# Altium schematic symbol library CPU_STM_080816.SchLib: 227 symbols (part 4 of 5)
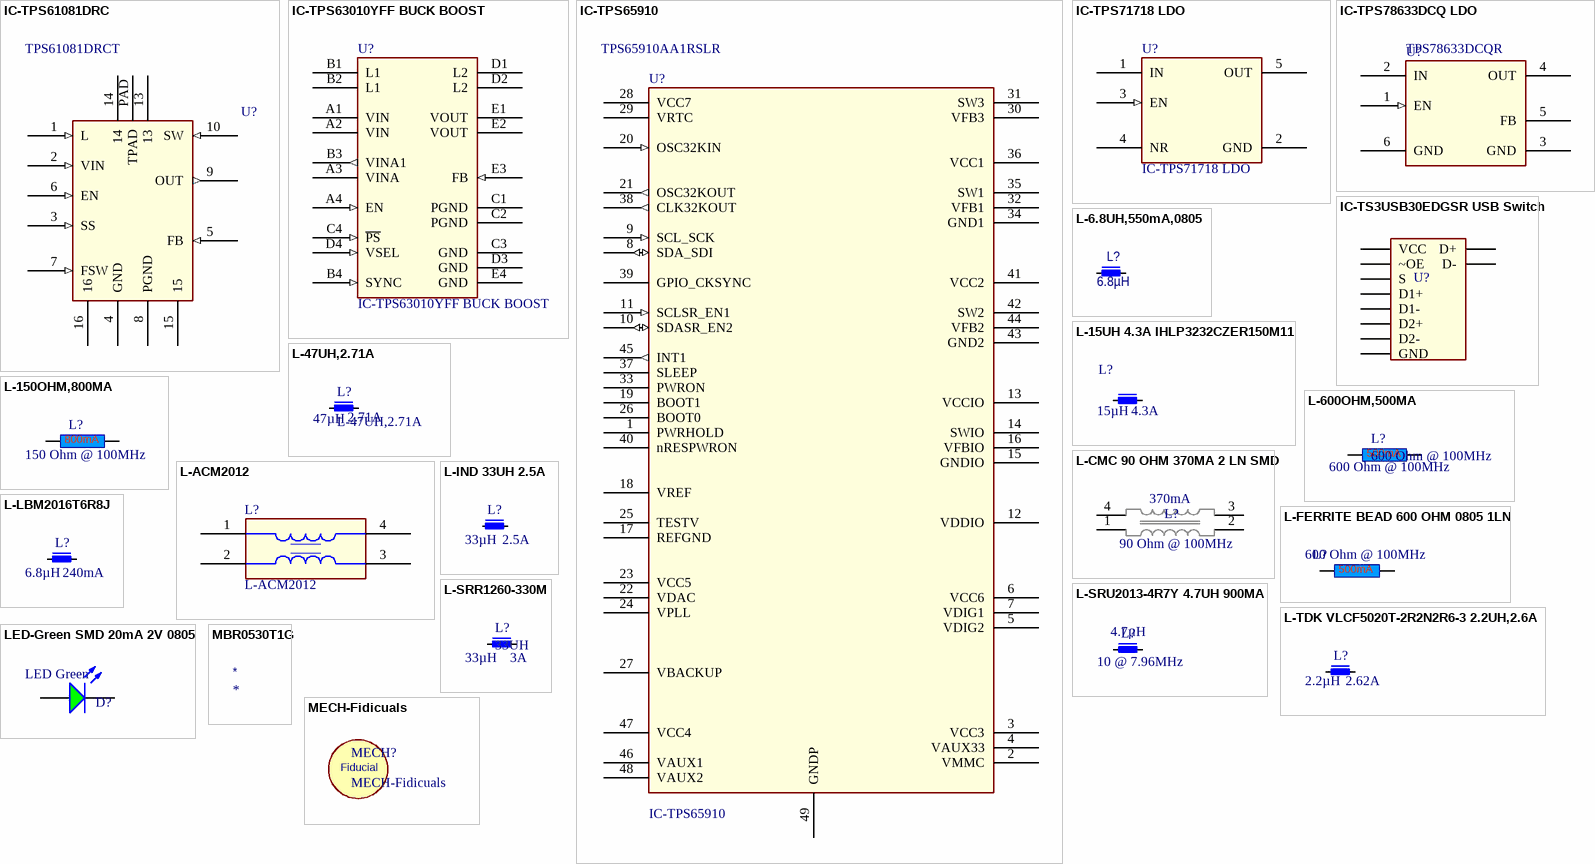
[diagram p14: symbols IC-TPS61081DRC to MECH-Fidicuals]

## IC-TPS63010YFF BUCK BOOST
designator U?
IC REG BUCK BOOST ADJ 2A 20DSBGA; Manufacturer: Texas Instruments; Manufacturer Part Number: TPS63010YFFT; Function: Step-Up/Step-Down; Output Configuration: Positive; Topology: Buck-Boost; Output Type: Adjustable; Number of Outputs: 1; Voltage - Input (Min): 2V; Voltage - Input (Max): 5.5V; Voltage - Output (Min/Fixed): 1.2V; Current - Output: 2A (Switch); Frequency - Switching: 2.4MHz; Synchronous Rectifier: Yes; Supplier 1: Digi-Key; RoHS: RoHS Compliant; Category: Integrated Circuits (ICs); Stock 1: 485; Pricing 1: 1=2.71, 10=2.43, 100=1.9491 (USD); Packaging: Cut Tape (CT); Voltage - Output (Max): 5.5V; Operating Temperature: -40°C ~ 85°C (TA); Mounting Type: Surface Mount; Package / Case: 20-UFBGA, DSBGA; Supplier Device Package: 20-DSBGA; ComponentLink1URL: http://www.ti.com/lit/ds/symlink/tps63010.pdf; ComponentLink1Description: http://www.ti.com/lit/ds/symlink/tps63010.pdf; Supplier Part Number 1: 296-27033-1-ND
footprint u_20_dsbga
pins: A1 VIN (power), A2 VIN (power), A3 VINA (power), A4 EN (in), B1 L1 (power), B2 L1 (power), B3 VINA1 (out), B4 SYNC (in), C1 PGND (power), C2 PGND (power), C3 GND (power), C4 ~{PS} (in), D1 L2 (power), D2 L2 (power), D3 GND (power), D4 VSEL (in), E1 VOUT (power), E2 VOUT (power), E3 FB (in), E4 GND (power)

## IC-TPS65910
designator U?  Manufacturer Part Number: TPS65910AA1RSLR
IC PWR MGMT 4DCDC/8 LDO 48VQFN; Manufacturer: Texas Instruments; Voltage - Supply: 1.7 V ~ 5.5 V; Supplier 1: Digi-Key; RoHS: RoHS Compliant; Category: Integrated Circuits (ICs); Stock 1: 1906; Pricing 1: 1=4.55, 10=4.079, 100=3.3467, 500=2.84716, 1000=2.08125 (USD); Packaging: Digi-Reel®; Applications: Handheld/Mobile Devices, OMAP™; Current - Supply: -; Operating Temperature: -40°C ~ 85°C; Mounting Type: Surface Mount; Package / Case: 48-VFQFN Exposed Pad; Supplier Device Package: 48-VQFN (6x6); ComponentLink1URL: http://www.ti.com/lit/ds/symlink/tps65910.pdf; ComponentLink1Description: http://www.ti.com/lit/ds/symlink/tps65910.pdf; Supplier Part Number 1: 296-39469-6-ND
footprint VQFN-48 (U_48_RSL)
pins: 1 PWRHOLD, 2 VMMC (power), 3 VCC3 (power), 4 VAUX33 (power), 5 VDIG2, 6 VCC6, 7 VDIG1, 8 SDA_SDI (io), 9 SCL_SCK (in), 10 SDASR_EN2 (io), 11 SCLSR_EN1 (in), 12 VDDIO, 13 VCCIO (power), 14 SWIO (power), 15 GNDIO (power), 16 VFBIO, 17 REFGND (power), 18 VREF, 19 BOOT1, 20 OSC32KIN (in), 21 OSC32KOUT (out), 22 VDAC (power), 23 VCC5 (power), 24 VPLL (power), 25 TESTV, 26 BOOT0, 27 VBACKUP (power), 28 VCC7, 29 VRTC, 30 VFB3, 31 SW3 (power), 32 VFB1, 33 PWRON, 34 GND1 (power), 35 SW1 (power), 36 VCC1, 37 SLEEP, 38 CLK32KOUT (out), 39 GPIO_CKSYNC, 40 nRESPWRON, 41 VCC2, 42 SW2 (power), 43 GND2 (power), 44 VFB2, 45 INT1 (out), 46 VAUX1 (power), 47 VCC4 (power), 48 VAUX2 (power), 49 GNDP (power)

## IC-TPS71718 LDO
designator U?
IC REG LDO 1.8V 0.15A SC70-5; Manufacturer: Texas Instruments; Manufacturer Part Number: TPS71718DCKR; Regulator Topology: Positive Fixed; Current - Output: 150mA; Number of Regulators: 1; Voltage - Input: 2.5 V ~ 6.5 V; Current - Limit (Min): 200mA; Supplier 1: Digi-Key; RoHS: RoHS Compliant; Category: Integrated Circuits (ICs); Stock 1: 8074; Pricing 1: 1=1.1, 10=0.985, 100=0.7679, 500=0.63504, 1000=0.405 (USD); Packaging: Digi-Reel®; Voltage - Output: 1.8V; Voltage - Dropout (Typical): -; Operating Temperature: -40°C ~ 125°C; Mounting Type: Surface Mount; Package / Case: 5-TSSOP, SC-70-5, SOT-353; Supplier Device Package: SC-70-5; ComponentLink1URL: http://www.ti.com/lit/ds/symlink/tps717.pdf; ComponentLink1Description: http://www.ti.com/lit/ds/symlink/tps717.pdf; Supplier Part Number 1: 296-19646-6-ND
footprint smdsc70-5 (SMDSC70-5)
pins: 1 IN, 2 GND (power), 3 EN (in), 4 NR, 5 OUT

## IC-TPS78633DCQ LDO
designator U?  Manufacturer Part Number: TPS78633DCQR  (hidden comment: *)
IC REG LDO 3.3V 1.5A SOT223-6; Manufacturer: Texas Instruments; Regulator Topology: Positive Fixed; Voltage - Dropout (Typical): 0.34V @ 1.5A; Number of Regulators: 1; Voltage - Input: Up to 5.5V; Current - Limit (Min): 2.4A; Supplier 1: Digi-Key; RoHS: RoHS Compliant; Category: Integrated Circuits (ICs); Stock 1: 4748; Pricing 1: 1=3.56, 10=3.197, 100=2.6231, 500=2.23156, 1000=1.63125 (USD); Packaging: Digi-Reel®; Voltage - Output: 3.3V; Current - Output: 1.5A; Operating Temperature: -40°C ~ 125°C; Mounting Type: Surface Mount; Package / Case: SOT-223-6; Supplier Device Package: SOT-223-6; ComponentLink1URL: http://www.ti.com/lit/ds/symlink/tps786.pdf; ComponentLink1Description: http://www.ti.com/lit/ds/symlink/tps786.pdf; Supplier Part Number 1: 296-13760-6-ND
footprint SOT223_6PIN
pins: 1 EN (in), 2 IN, 3 GND (power), 4 OUT (power), 5 FB, 6 GND (power)

## IC-TS3USB30EDGSR USB Switch
designator U?, comment TS3USB30EDGSR  (value not drawn)
IC USB SWITCH SGL 1X2 10MSOP; Manufacturer: Texas Instruments; Circuit: 2 x 2:1; On-State Resistance (Max): 10 Ohm; Voltage Supply Source: Single Supply; Voltage - Supply, Single/Dual (±): 3 V ~ 4.3 V; Current - Supply: 1µA; Supplier 1: Digi-Key; Manufacturer Part Number: TS3USB30EDGSR; RoHS: RoHS Compliant; Category: Integrated Circuits (ICs); Stock 1: 7500; Pricing 1: 2500=0.55125 (USD); Packaging: Tape & Reel (TR); Function: USB Switch; Operating Temperature: -40°C ~ 85°C; Mounting Type: Surface Mount; Package / Case: 10-TFSOP, 10-MSOP (0.118", 3.00mm Width); Supplier Device Package: 10-VSSOP; ComponentLink1URL: http://www.ti.com/lit/ds/symlink/ts3usb30e.pdf; ComponentLink1Description: http://www.ti.com/lit/ds/symlink/ts3usb30e.pdf; Supplier Part Number 1: 296-25495-2-ND
footprint S-PDSO-G 10
pins: 1 S, 2 D1+, 3 D2+, 4 D+, 5 GND, 6 D-, 7 D2-, 8 D1-, 9 ~OE, 10 VCC

## L-6.8UH,550mA,0805
designator L?, comment Inductance: 6.8µH  (hidden comment: 6.8UH 550MA)
FIXED IND 6.8UH 550MA 250 MOHM; Manufacturer: TDK Corporation; Manufacturer Part Number: MLZ2012N6R8LT000; Type: Multilayer; Material - Core: Ferrite; Tolerance: ±20%; Current - Saturation: 110mA; Shielding: Shielded; Frequency - Self Resonant: 60MHz; Frequency - Test: 2MHz; Supplier 1: Digi-Key; RoHS: RoHS Compliant; Category: Inductors, Coils, Chokes; Stock 1: 11951; Pricing 1: 1=0.14, 10=0.125, 50=0.0976, 100=0.0875, 500=0.075, 1000=0.065 (USD); Packaging: Digi-Reel®; Part Status: Active; Current Rating: 550mA; DC Resistance (DCR): 250 mOhm; Q @ Freq: -; Ratings: -; Operating Temperature: -55°C ~ 125°C; Mounting Type: Surface Mount; Package / Case: 0805 (2012 Metric); Size / Dimension: 0.079" L x 0.049" W (2.00mm x 1.25mm); Height - Seated (Max): 0.057" (1.45mm); ComponentLink1URL: https://product.tdk.com/info/en/catalog/datasheets/inductor_commercial_decoupling_mlz2012_en.pdf; ComponentLink1Description: https://product.tdk.com/info/en/catalog/datasheets/inductor_commercial_decoupling_mlz2012_en.pdf; Supplier Part Number 1: 445-6761-6-ND
footprint 0805
pins: 1, 2

## L-15UH 4.3A IHLP3232CZER150M11
designator L?, comment Current Rating: 4.3A  Inductance: 15µH  (hidden comment: 15UH 3.8A)
FIXED IND 15UH 4.3A 85.3 MOHM; Manufacturer: Vishay Dale; Manufacturer Part Number: IHLP3232CZER150M11; Type: Molded; Tolerance: ±20%; Shielding: Shielded; DC Resistance (DCR): 85.3 mOhm Max; Frequency - Self Resonant: 11MHz; Frequency - Test: 100kHz; Supplier 1: Digi-Key; RoHS: RoHS Compliant; Category: Inductors, Coils, Chokes; Stock 1: 4866; Pricing 1: 1=1.8, 10=1.688, 25=1.5752, 50=1.35, 100=1.2825, 250=1.17, 500=1.035 (USD); Packaging: Digi-Reel®; Material - Core: -; Current - Saturation: 3.8A; Q @ Freq: -; Ratings: -; Operating Temperature: -55°C ~ 125°C; Mounting Type: Surface Mount; Package / Case: Nonstandard; Size / Dimension: 0.340" L x 0.322" W (8.64mm x 8.18mm); Height - Seated (Max): 0.118" (3.00mm); ComponentLink1URL: http://www.vishay.com/docs/34321/ihlp3232cz11.pdf; ComponentLink1Description: http://www.vishay.com/docs/34321/ihlp3232cz11.pdf; Supplier Part Number 1: 541-1623-6-ND
footprint indkrt_2
pins: 1, 2

## L-47UH,2.71A
designator L?  Inductance - Connected In Parallel: 47µH  Current Rating - Parallel: 2.71A
Fixed Inductors 47uH 2.71A 0.074ohms; Manufacturer: Bourns Inc.; Manufacturer Part Number: SRF1260-470M; Number of Coils: 2; Inductance - Connected In Series: 188µH; Tolerance: ±20%; Current Rating - Series: 1.35A; Current Saturation - Parallel: 3.24A; Current Saturation - Series: 1.62A; DC Resistance (DCR) - Parallel: 86 mOhm Max; DC Resistance (DCR) - Series: 340 mOhm Max; Shielding: Shielded; Supplier 1: Digi-Key; RoHS: RoHS Compliant; Category: Inductors, Coils, Chokes; Stock 1: 378; Pricing 1: 1=1.15, 10=1.08, 25=1.008, 50=0.864, 100=0.8208 (USD); Packaging: Cut Tape (CT); Operating Temperature: -40°C ~ 125°C; Mounting Type: Surface Mount; Package / Case: Nonstandard; Size / Dimension: 0.492" L x 0.492" W (12.50mm x 12.50mm); Height: 0.244" (6.20mm); ComponentLink1URL: http://www.bourns.com/docs/Product-Datasheets/SRF1260.pdf; ComponentLink1Description: http://www.bourns.com/docs/Product-Datasheets/SRF1260.pdf; Supplier Part Number 1: SRF1260-470MCT-ND
footprint indkrt_2
pins: 1, 2

## L-150OHM,800MA
designator L?, comment 150 Ohm @ 100MHz
FERRITE 800MA 150 OHM 0805 SMD; Manufacturer: Laird-Signal Integrity Products; Manufacturer Part Number: LI0805H151R-10; DC Resistance (DCR): 150 mOhm Max; Filter Type: Differential Mode - Single; Supplier 1: Digi-Key; RoHS: RoHS Compliant; Category: Filters; Stock 1: 418596; Pricing 1: 1=0.1, 10=0.07, 25=0.064, 50=0.0574, 100=0.0421, 250=0.03064, 500=0.02808, 1000=0.02424 (USD); Packaging: Cut Tape (CT); Current Rating: 800mA; Package / Case: 0805 (2012 Metric); Mounting Type: Surface Mount; Height (Max): 0.043" (1.10mm); Size / Dimension: 0.079" L x 0.049" W (2.00mm x 1.25mm); ComponentLink1URL: http://www.lairdtech.com/WorkArea/linkit.aspx?LinkIdentifier=id&ItemID=4912; ComponentLink1Description: http://www.lairdtech.com/WorkArea/linkit.aspx?LinkIdentifier=id&ItemID=4912; Supplier Part Number 1: 240-2384-1-ND; Impedance @ Frequency: 150 Ohm @ 100MHz
footprint 0805
pins: 1, 2

## L-600OHM,500MA
designator L?, comment 600 Ohm @ 100MHz
FERRITE CHIP 600 OHM 500MA 0603; Manufacturer: Murata Electronics North America; Manufacturer Part Number: BLM18AG601SN1D; DC Resistance (DCR): 380 mOhm Max; Filter Type: Differential Mode - Single; Supplier 1: Digi-Key; RoHS: RoHS Compliant; Category: Filters; Stock 1: 305151; Pricing 1: 1=0.1, 10=0.079, 50=0.0648, 100=0.0476, 250=0.0346, 500=0.0317, 1000=0.02738 (USD); Packaging: Digi-Reel®; Current Rating: 500mA; Package / Case: 0603 (1608 Metric); Mounting Type: Surface Mount; Height (Max): 0.037" (0.95mm); Size / Dimension: 0.063" L x 0.031" W (1.60mm x 0.80mm); ComponentLink1URL: http://search.murata.co.jp/Ceramy/image/img/PDF/ENG/L0110S0100BLM18A.pdf; ComponentLink1Description: http://search.murata.co.jp/Ceramy/image/img/PDF/ENG/L0110S0100BLM18A.pdf; Supplier Part Number 1: 490-1014-6-ND; Impedance @ Frequency: 600 Ohm @ 100MHz
footprint 0805
pins: 1, 2

## L-ACM2012
designator L?
Common Mode Filter for USB/HDMI; Mfr: TDK; MfrNum: ACM2012H-900-2P; TIIntPartnumber: 1M0003; Vendor: Arrow; Cost100: 1.11; Cost10K: 0.42; DescriptiveText: Common Mode Filter for USB/HDMI; PartName: ACM2012; Descriptive_Text: Common Mode Filter for USB/HDMI; Supplier 1: Digi-Key; Supplier Part Number 1: 445-5193-6-ND
footprint ACM2012H
pins: 1, 2, 3, 4

## L-CMC 90 OHM 370MA 2 LN SMD
designator L?, comment Current Rating (Max): 370mA  (hidden comment: 90 Ohm @ 100MHz)
CMC 90 OHM 370MA 2 LN SMD; Manufacturer: Abracon LLC; Manufacturer Part Number: ACM-31-900M-T; Filter Type: Signal Line; Number of Lines: 2; DC Resistance (DCR) (Max): 300 mOhm; Voltage Rating - DC: 50V; Supplier 1: Digi-Key; RoHS: RoHS Compliant; Category: Filters; Stock 1: 3796; Pricing 1: 1=0.5, 10=0.44, 25=0.4124, 50=0.3576, 100=0.33, 250=0.31352, 500=0.286, 1000=0.242 (USD); Packaging: Cut Tape (CT); Inductance @ Frequency: -; Voltage Rating - AC: -; Operating Temperature: -40°C ~ 85°C; Ratings: -; Approvals: -; Features: -; Mounting Type: Surface Mount; Size / Dimension: 0.118" L x 0.063" W (3.00mm x 1.60mm); Height (Max): 0.079" (2.00mm); Package / Case: Horizontal, 4 PC Pad; ComponentLink1URL: http://www.abracon.com/Magnetics/chokes/ACM-31.pdf; ComponentLink1Description: http://www.abracon.com/Magnetics/chokes/ACM-31.pdf; Supplier Part Number 1: 535-12752-1-ND; Impedance @ Frequency: 90 Ohm @ 100MHz
footprint FILTER
pins: 1, 2, 3, 4

## L-FERRITE BEAD 600 OHM 0805 1LN
designator L?, comment 600 Ohm @ 100MHz
Power Supply FB 500mA; Manufacturer: Wurth Electronics Inc; Manufacturer Part Number: 7427920415; Filter Type: Signal Line; Number of Lines: 1; DC Resistance (DCR) (Max): 300 mOhm; Supplier 1: Digi-Key; RoHS: RoHS Compliant; Category: Filters; Stock 1: 31104; Pricing 1: 1=0.23, 50=0.2188, 100=0.2013, 500=0.1925, 1000=0.18375, 2000=0.175 (USD); Packaging: Cut Tape (CT); Current Rating (Max): 500mA; Ratings: -; Operating Temperature: -55°C ~ 125°C; Package / Case: 0805 (2012 Metric); Mounting Type: Surface Mount; Height (Max): 0.043" (1.10mm); Size / Dimension: 0.079" L x 0.047" W (2.00mm x 1.20mm); ComponentLink1URL: http://katalog.we-online.de/pbs/datasheet/7427920415.pdf; ComponentLink1Description: http://katalog.we-online.de/pbs/datasheet/7427920415.pdf; Supplier Part Number 1: 732-1605-1-ND; Impedance @ Frequency: 600 Ohm @ 100MHz
footprint 0805
pins: 1, 2

## L-IND 33UH 2.5A
designator L?  Inductance: 33µH  Current Rating: 2.5A
FIXED IND 33UH 2.5A 79 MOHM SMD; Manufacturer: Wurth Electronics Inc; Manufacturer Part Number: 7447714330; Type: Wirewound; Material - Core: Ferrite; Tolerance: ±20%; Current - Saturation: 2.9A; Shielding: Shielded; DC Resistance (DCR): 79 mOhm Max; Frequency - Self Resonant: 11.1MHz; Frequency - Test: 100kHz; Supplier 1: Digi-Key; RoHS: RoHS Compliant; Category: Inductors, Coils, Chokes; Stock 1: 137; Pricing 1: 1=2.76, 10=2.415, 50=2.2424, 100=2.1562, 250=2.07 (USD); Packaging: Cut Tape (CT); Q @ Freq: -; Ratings: -; Operating Temperature: -40°C ~ 125°C; Mounting Type: Surface Mount; Package / Case: Nonstandard; Size / Dimension: 0.394" L x 0.394" W (10.00mm x 10.00mm); Height - Seated (Max): 0.197" (5.00mm); ComponentLink1URL: http://katalog.we-online.de/pbs/datasheet/7447714330.pdf; ComponentLink1Description: http://katalog.we-online.de/pbs/datasheet/7447714330.pdf; Supplier Part Number 1: 732-2993-1-ND
footprint Bobin_SMD
pins: 1, 2

## L-LBM2016T6R8J
designator L?, comment Inductance: 6.8µH  Current Rating: 240mA  (hidden comment: FIXED IND 6.8UH 240MA 970 MOHM)
Manufacturer: Taiyo Yuden; Manufacturer Part Number: LBM2016T6R8J; Type: Wirewound; Tolerance: ±5%; Shielding: Unshielded; Q @ Freq: 25 @ 7.96MHz; Frequency - Self Resonant: 33MHz; Frequency - Test: 7.96MHz; Supplier 1: Digi-Key; RoHS: RoHS Compliant; Category: Inductors, Coils, Chokes; Stock 1: 10000; Pricing 1: 2000=0.0777, 4000=0.0666, 6000=0.0629, 10000=0.0592, 50000=0.0555 (USD); Packaging: Tape & Reel (TR); Material - Core: -; Current - Saturation: -; DC Resistance (DCR): 970 mOhm; Ratings: -; Operating Temperature: -40°C ~ 105°C; Mounting Type: Surface Mount; Package / Case: 0806 (2016 Metric); Size / Dimension: 0.079" L x 0.063" W (2.00mm x 1.60mm); Height - Seated (Max): 0.071" (1.80mm); ComponentLink1URL: http://ds.yuden.co.jp/TYCOMPAS/ut/detail.do?productNo=LBM2016T6R8J&fileName=LBM2016T6R8J_SS&mode=specSheetDownload; ComponentLink1Description: http://ds.yuden.co.jp/TYCOMPAS/ut/detail.do?productNo=LBM2016T6R8J&fileName=LBM2016T6R8J_SS&mode=specSheetDownload; Supplier Part Number 1: 587-1810-2-ND
footprint Bobin_SMD
pins: 1, 2

## L-SRR1260-330M
designator L?, comment 33UH  Inductance: 33µH  Current Rating: 3A
FIXED IND 33UH 3A 60 MOHM SMD; Manufacturer: Bourns Inc.; Manufacturer Part Number: SRR1260-330M; Type: Wirewound; Material - Core: Ferrite; Tolerance: ±20%; Current - Saturation: 2.8A; Shielding: Shielded; DC Resistance (DCR): 60 mOhm Max; Q @ Freq: 27 @ 2.52MHz; Frequency - Self Resonant: 9.97MHz; Frequency - Test: 100kHz; Supplier 1: Digi-Key; RoHS: RoHS Compliant; Category: Inductors, Coils, Chokes; Stock 1: 3749; Pricing 1: 1=0.99, 10=0.93, 25=0.868, 50=0.744, 100=0.7068, 250=0.6448 (USD); Packaging: Cut Tape (CT); Ratings: -; Operating Temperature: -40°C ~ 125°C; Mounting Type: Surface Mount; Package / Case: Nonstandard; Size / Dimension: 0.492" L x 0.492" W (12.50mm x 12.50mm); Height - Seated (Max): 0.256" (6.50mm); ComponentLink1URL: http://www.bourns.com/docs/Product-Datasheets/SRR1260.pdf; ComponentLink1Description: http://www.bourns.com/docs/Product-Datasheets/SRR1260.pdf; Supplier Part Number 1: SRR1260-330MCT-ND
footprint indkrt_2
pins: 1, 2

## L-SRU2013-4R7Y 4.7UH 900MA
designator L?, comment Inductance: 4.7µH  (hidden comment: 10 @ 7.96MHz)
INDUCTOR 4.7UH 900MA SMD; Manufacturer: Bourns Inc.; Manufacturer Part Number: SRU2013-4R7Y; Type: Wirewound; Material - Core: Ferrite; Tolerance: ±30%; Current - Saturation: 750mA; Shielding: Shielded; DC Resistance (DCR): 220 mOhm Max; Frequency - Self Resonant: 72MHz; Frequency - Test: 100kHz; Supplier 1: Digi-Key; RoHS: RoHS Compliant; Category: Inductors, Coils, Chokes; Stock 1: 2110; Pricing 1: 1=0.68, 10=0.608, 25=0.57, 50=0.494, 100=0.456, 250=0.4332, 500=0.3952 (USD); Packaging: Cut Tape (CT); Current Rating: 900mA; Operating Temperature: -40°C ~ 125°C; Mounting Type: Surface Mount; Package / Case: Non Standard; Size / Dimension: 0.110" L x 0.110" W (2.80mm x 2.80mm); Height - Seated (Max): 0.059" (1.50mm); Supplier Device Package: -; ComponentLink1URL: http://www.bourns.com/data/global/pdfs/SRU2013.pdf; ComponentLink1Description: http://www.bourns.com/data/global/pdfs/SRU2013.pdf; Supplier Part Number 1: SRU2013-4R7YCT-ND; Q @ Freq: 10 @ 7.96MHz
footprint 4.7UH
pins: 1, 2

## L-TDK VLCF5020T-2R2N2R6-3 2.2UH,2.6A
designator L?, comment Inductance: 2.2µH  Current Rating: 2.62A  (hidden comment: 2.2UH 2.6A)
INDUCTOR POWER 2.2UH 2.6A SMD; Manufacturer: TDK Corporation; Manufacturer Part Number: VLCF5020T-2R2N2R6-3; Type: Wirewound; Material - Core: Ferrite; Tolerance: ±30%; Shielding: Shielded; DC Resistance (DCR): 43 mOhm Max; Frequency - Test: 100kHz; Capacitance: 25pF; Voltage - Rated: 50V; Temperature Coefficient: C0G, NP0; Supplier 1: Digi-Key; RoHS: RoHS Compliant; Category: Inductors, Coils, Chokes; Stock 1: 28500; Pricing 1: 500=0.462, 1000=0.374, 2500=0.352, 5000=0.341, 12500=0.33, 25000=0.319, 50000=0.308 (USD); Packaging: Tape & Reel (TR); Current - Saturation: 2.62A; Q @ Freq: -; Frequency - Self Resonant: -; Operating Temperature: -40°C ~ 105°C; Mounting Type: Surface Mount; Package / Case: Non Standard; Size / Dimension: 0.197" L x 0.197" W (5.00mm x 5.00mm); Height - Seated (Max): 0.079" (2.00mm); Supplier Device Package: -; ComponentLink1URL: http://product.tdk.com/inductor/ind/en/documents/inductor_commercial_power_vlcf_en.pdf; ComponentLink1Description: http://product.tdk.com/inductor/ind/en/documents/inductor_commercial_power_vlcf_en.pdf; Supplier Part Number 1: 445-4557-2-ND; Supplier 2: Digi-Key; Stock 2: 7744; Pricing 2: 1=0.25, 10=0.173, 25=0.126, 50=0.105, 100=0.0882, 250=0.0714, 500=0.063, 1000=0.05355 (USD); Applications: General Purpose; Ratings: -; Thickness (Max): 0.030" (0.75mm); Lead Spacing: -; Features: -; Lead Style: -; ComponentLink2URL: http://www.samsungsem.com/servlet/FileDownload?type=spec&file=CL21C250JBANNNC.pdf; ComponentLink2Description: http://www.samsungsem.com/servlet/FileDownload?type=spec&file=CL21C250JBANNNC.pdf
footprint INDUCTR
pins: 1, 2

## LED-Green SMD 20mA 2V 0805
designator D?, comment LED Green
LED Green SMD 20mA 2V 0805; TIIntPartnumber: 1F0008; MfrNum: 598-8170-107F; Mfr: Dialight; PartName: LEDGreen2x1.5; Cost10K: 0.052; Cost100: 0.081; Vendor: Digikey; DescriptiveText: LED Green SMD 20mA 2V 0805; Descriptive_Text: LED Green SMD 20mA 2V 0805; Supplier 1: Farnell; Supplier Part Number 1: 2127741
footprint LED_0805
pins: 1 K, 2 A

## MBR0530T1G
designator *
DIODE SCHOTTKY 30V 500MA SOD123

## MECH-Fidicuals
designator MECH?
Fidicuals
footprint T-Fidicuals (Fidicuals)
text: Fiducial

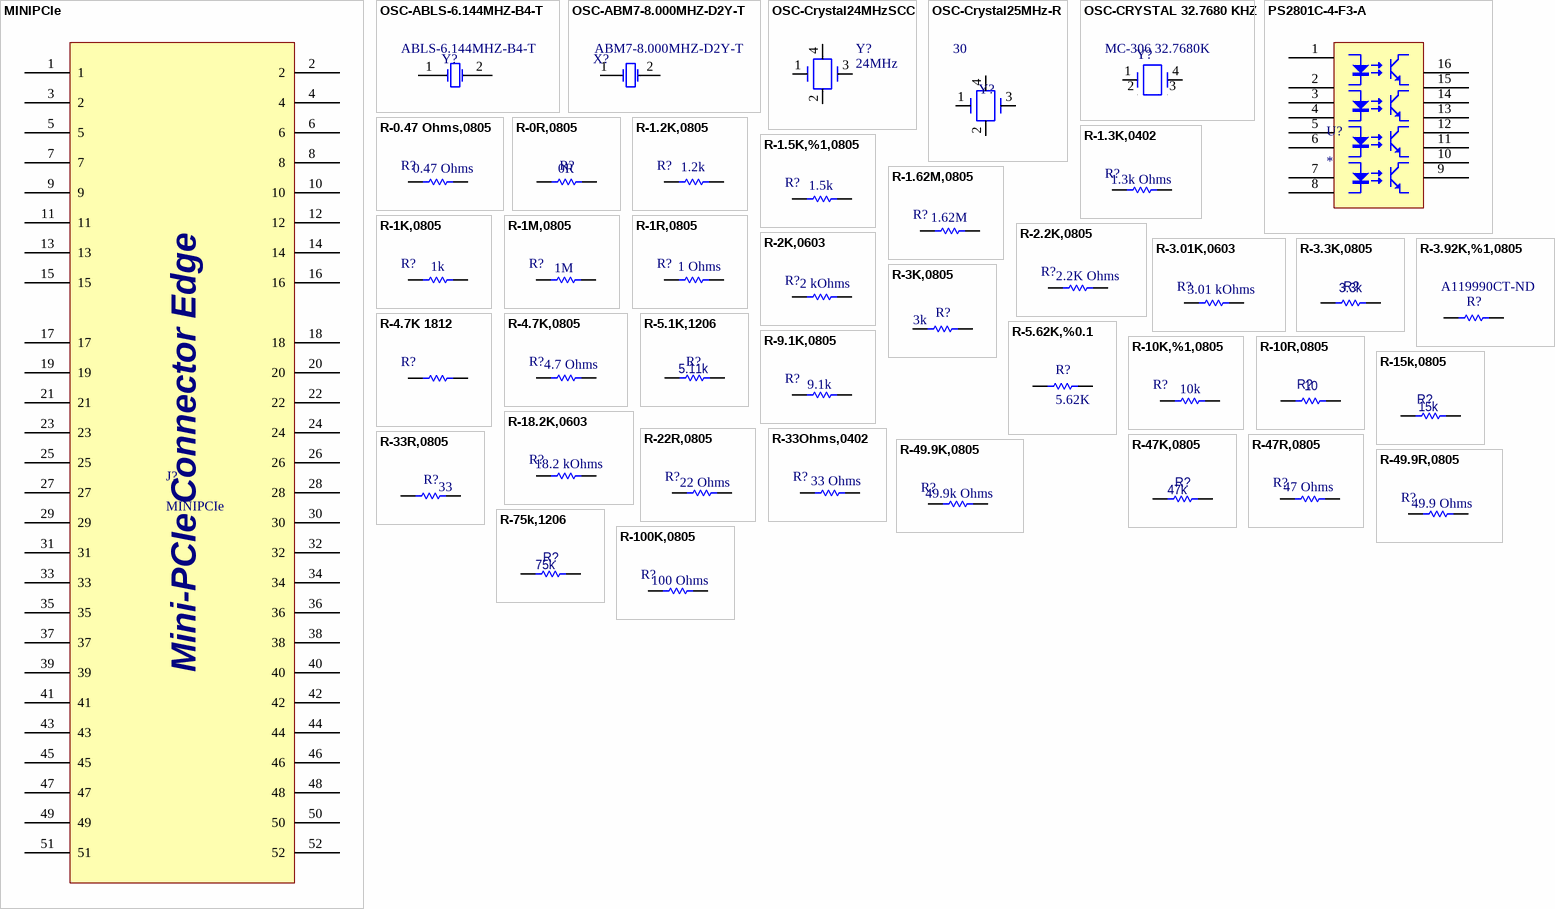
[diagram p10: symbols MINIPCIe to R-100K,0805]

## MINIPCIe
designator J?
footprint MINI PCIe
pins: 1, 2, 3 2, 4, 5, 6, 7, 8, 9, 10, 11, 12, 13, 14, 15, 16, 17, 18, 19, 20, 21, 22, 23, 24, 25, 26, 27, 28, 29, 30, 31, 32, 33, 34, 35, 36, 37, 38, 39, 40, 41, 42, 43, 44, 45, 46, 47, 48, 49, 50, 51, 52
text: Mini-PCIe Connector Edge

## OSC-ABLS-6.144MHZ-B4-T
designator Y?, comment Manufacturer Part Number: ABLS-6.144MHZ-B4-T  (hidden comment: ABLS-6.144MHZ)
CRYSTAL 6.1440MHZ 18PF SMD; Manufacturer: Abracon LLC; Frequency Stability: ±50ppm; Frequency Tolerance: ±30ppm; ESR (Equivalent Series Resistance): 100 Ohm; Operating Mode: Fundamental; Supplier 1: Digi-Key; RoHS: RoHS Compliant; Category: Crystals and Oscillators; Stock 1: 3930; Pricing 1: 1=0.35, 10=0.289, 50=0.2596, 100=0.231, 500=0.22 (USD); Packaging: Cut Tape (CT); Type: MHz Crystal; Frequency: 6.144MHz; Load Capacitance: 18pF; Operating Temperature: -20°C ~ 70°C; Ratings: -; Mounting Type: Surface Mount; Package / Case: HC49/US; Size / Dimension: 0.449" L x 0.185" W (11.40mm x 4.70mm); Height: 0.165" (4.20mm); ComponentLink1URL: http://www.abracon.com/Resonators/abls.pdf; ComponentLink1Description: http://www.abracon.com/Resonators/abls.pdf; Supplier Part Number 1: 535-10209-1-ND
footprint HEADER,2PİN ADC
pins: 1 OSC1, 2 OSC2

## OSC-ABM7-8.000MHZ-D2Y-T
designator X?, comment Manufacturer Part Number: ABM7-8.000MHZ-D2Y-T  (hidden comment: ABM7-8.000MHZ)
CRYSTAL 8.0000MHZ 18PF SMD; Manufacturer: Abracon LLC; Frequency: 8MHz; Frequency Stability: ±30ppm; Frequency Tolerance: ±20ppm; ESR (Equivalent Series Resistance): 100 Ohm; Operating Mode: Fundamental; Supplier 1: Digi-Key; RoHS: RoHS Compliant; Category: Crystals and Oscillators; Stock 1: 111842; Pricing 1: 1=0.76, 10=0.678, 50=0.6328, 100=0.56, 500=0.5292 (USD); Packaging: Cut Tape (CT); Type: MHz Crystal; Load Capacitance: 18pF; Operating Temperature: -40°C ~ 85°C; Ratings: -; Mounting Type: Surface Mount; Package / Case: 2-SMD, No Lead (DFN, LCC); Size / Dimension: 0.236" L x 0.138" W (6.00mm x 3.50mm); Height: 0.055" (1.40mm); ComponentLink1URL: http://www.abracon.com/Resonators/abm7.pdf; ComponentLink1Description: http://www.abracon.com/Resonators/abm7.pdf; Supplier Part Number 1: 535-9831-1-ND
footprint sm_osc_mixed
pins: 1 OSC1, 2 OSC2

## OSC-Crystal24MHzSCC
designator Y?, comment 24MHz
Crystal 24MHz; PartName: Crystal24MHzSCC; Mfr: Suntsu; MfrNum: SCC18B-24.000MHz TR; TIIntPartnumber: 1Y0033; Vendor: Suntsu Inc; Cost100: 0.90; Cost10K: 0.51; DescriptiveText: Crystal 24MHz; Descriptive_Text: Crystal 24MHz; Supplier 1: Digi-Key; Supplier Part Number 1: 887-1110-1-ND
footprint SM_CRY_SCC18
pins: 1, 2 NC0, 3, 4 NC1

## OSC-Crystal25MHz-R
designator Y?, comment Frequency Stability + / -: 30  (hidden comment: 25MHz)
RALTRON - RH100-25.000-18-F-3030-EXT - CRYSTAL, 25MHZ, 18PF, 3.2MM X 2.5MM; Product Range: RH100 Series; Frequency Nom: 25; Crystal Case: SMD, 3.2mm x 2.5; Load Capacitance: 18; SVHC: No SVHC (17-Dec-2015); Supplier 1: Farnell; Manufacturer: RALTRON; Manufacturer Part Number: RH100-25.000-18-F-3030-EXT; RoHS: YES; Pricing 1: 1=0.81, 5=0.75, 10=0.68, 20=0.61, 40=0.58, 100=0.54, 500=0.529, 1000=0.518 (GBP); Frequency Tolerance + / -: 30; Operating Temperature Min: -40; Operating Temperature Max: 85; MSL: MSL 1 - Unlimited<!--FANDB--><div class="features-and-benefits-container"></div>; ComponentLink1URL: http://www.farnell.com/datasheets/1998832.pdf; ComponentLink1Description: http://www.farnell.com/datasheets/1998832.pdf; Supplier Part Number 1: 2509084RL
footprint ABM8G (XTAL)
pins: 1, 2, 3, 4

## OSC-CRYSTAL 32.7680 KHZ
designator Y?, comment Manufacturer Part Number: MC-306 32.7680K  (hidden comment: 32.7680 KHZ 12.5PF)
CRYSTAL 32.7680 KHZ 12.5PF SMD; Manufacturer: EPSON; Frequency: 32.768kHz; Frequency Tolerance: ±100ppm; ESR (Equivalent Series Resistance): 50 kOhm; Operating Mode: Fundamental; Supplier 1: Digi-Key; RoHS: RoHS Compliant; Category: Crystals and Oscillators; Stock 1: 0; Pricing 1: 1=0.54, 10=0.447, 50=0.4012, 100=0.357, 500=0.34 (USD); Packaging: Cut Tape (CT); Type: kHz Crystal (Tuning Fork); Frequency Stability: -; Load Capacitance: 12.5pF; Operating Temperature: -40°C ~ 85°C; Ratings: -; Mounting Type: Surface Mount; Package / Case: 4-SMD, J-Lead; Size / Dimension: 0.315" L x 0.126" W (8.00mm x 3.20mm); Height: 0.100" (2.54mm); ComponentLink1URL: https://support.epson.biz/td/api/doc_check.php?dl=brief_MC-306_en.pdf; ComponentLink1Description: https://support.epson.biz/td/api/doc_check.php?dl=brief_MC-306_en.pdf; Supplier Part Number 1: SER4094CT-ND
footprint CRSTAL_RTC (MC-306)
pins: 1, 2, 3, 4

## PS2801C-4-F3-A
designator U?
NEC - PS2801C-4-F3-A - OPTOCOUPLER, 4X TR O/P, SSOP-16; Supplier 1: Farnell; Supplier Part Number 1: 1682862
footprint U_16_D LONG (U_16_D)
pins: 1, 2, 3, 4, 5, 6, 7, 8, 9, 10, 11, 12, 13, 14, 15, 16

## R-0.47 Ohms,0805
designator R?  Resistance: 0.47 Ohms  (hidden comment: R-0.47 Ohms,0805)
Thick Film Resistors - SMD 0805 0.47ohms 1% Tol; Manufacturer: Panasonic; Manufacturer Part Number: ERJ-6RQFR47V; Power Rating: 125 mW (1/8 W); Temperature Coefficient: 200 PPM / C; Case Height: 0.6 mm; Case Length: 2 mm; Case Width: 1.2 mm; Supplier 1: Mouser; RoHS: RoHS Compliant By Exemption; Category: Thick Film Resistors - SMD; Stock 1: 25969; Pricing 1: 1=0.846, 10=0.337, 100=0.143, 1000=0.104, 5000=0.058, 10000=0.055, 25000=0.052, 50000=0.050 (AUD); Operating Temperature Range: - 55 C to + 125 C; Package / Case: 0805 (2012 metric); Packaging: Reel; Product: Thick Film Resistors SMD; Series: ERJ; Tolerance: 1 %; Type: Thick Film Resistors, Low Resistance Type; Brand: Panasonic; Case Code - in: 0805; Case Code - mm: 2012; Product Category: Thick Film Current Sensing Resistors; Standard Pack Qty: 5000; RoHS - Mouser: E; Minimum Order Quantity: 1; Reeling: True; ComponentLink1URL: http://www.mouser.com/ds/2/315/AOA0000CE3-72189.pdf; ComponentLink1Description: http://www.mouser.com/ds/2/315/AOA0000CE3-72189.pdf; Supplier Part Number 1: 667-ERJ-6RQFR47V
footprint R0805
pins: 1, 2

## R-0R,0805
designator R?, comment 0R
BOURNS - CR0805-J/-000ELF - RESISTOR, 0805, 0R, 5%, 1/8W; Product Range: BOURNS - CR Series; Power Rating: 125; Resistor Case Style: 0805 [2012 Metric]; Resistor Element Material: Thick Film; Temperature Coefficient: -250ppm/°C to +500; Voltage Rating: 150; SVHC: No SVHC (16-Jun-2014); Resistor Mounting: SMD<!--FANDB--><div class="features-and-benefits-container"></div>; Supplier 1: Farnell; Manufacturer: BOURNS; Manufacturer Part Number: CR0805-J/-000ELF; RoHS: YES; Stock 1: 20931; Pricing 1: 50=0,0234, 250=0,0208, 1000=0,0182, 5000=0,0143, 10000=0,0104 (EUR); Resistance Tolerance: ± 5%; Packaging: Cut Tape; MSL: MSL 1 - Unlimited; ComponentLink1URL: http://www.farnell.com/datasheets/1845293.pdf; ComponentLink1Description: http://www.farnell.com/datasheets/1845293.pdf; Supplier Part Number 1: 2008388RL; Supplier 2: Farnell; Supplier 3: Newark; Supplier Part Number 3: 66F5622; Resistance: 0R
footprint R0805
pins: 1, 2

## R-1.2K,0805
designator R?, comment 1.2k
RES SMD 1.2K OHM 1% 1/8W 0805; Manufacturer: Yageo; Manufacturer Part Number: RC0805FR-071K2L; Power (Watts): 0.125W, 1/8W; Temperature Coefficient: ±100ppm/°C; Supplier 1: Digi-Key; RoHS: RoHS Compliant; Category: Resistors; Stock 1: 169388; Pricing 1: 1=0.1, 10=0.021, 25=0.0152, 100=0.0084, 250=0.00644, 500=0.00514, 1000=0.00379, 2500=0.00329 (USD); Packaging: Digi-Reel®; Tolerance: ±1%; Composition: Thick Film; Features: Moisture Resistant; Operating Temperature: -55°C ~ 155°C; Package / Case: 0805 (2012 Metric); Supplier Device Package: 0805; Size / Dimension: 0.079" L x 0.049" W (2.00mm x 1.25mm); Height: 0.024" (0.60mm); Number of Terminations: 2; ComponentLink1URL: http://www.yageo.com/documents/recent/PYu-RC_Group_51_RoHS_L_04.pdf; ComponentLink1Description: http://www.yageo.com/documents/recent/PYu-RC_Group_51_RoHS_L_04.pdf; Supplier Part Number 1: 311-1.20KCRDKR-ND; Resistance (Ohms): 1.2k
footprint R0805
pins: 1, 2

## R-1.3K,0402
designator R?, comment 1.3k Ohms
VISHAY DRALORIC - CRCW08051K30FKEA - RESISTOR, 0805, 1K3, 1%; Product Range: VISHAY - CRCW Series; Power Rating: 125; Resistor Case Style: 0805 [2012 Metric]; Resistor Element Material: Thick Film; Temperature Coefficient: ± 100; Voltage Rating: 150; SVHC: No SVHC (16-Dec-2013); Reel Quantity: 5000; Resistor Mounting: SMD<!--FANDB--><div class="features-and-benefits-container"></div>; Supplier 1: Farnell; Manufacturer: VISHAY DRALORIC; Manufacturer Part Number: CRCW08051K30FKEA; RoHS: Y-EX; Stock 1: 35000; Pricing 1: 5000=0,003, 25000=0,003, 50000=0,003 (EUR); Resistance Tolerance: ± 1%; Packaging: Tape & Reel; MSL: MSL 1 - Unlimited; ComponentLink1URL: http://www.farnell.com/datasheets/1697337.pdf; ComponentLink1Description: http://www.farnell.com/datasheets/1697337.pdf; Supplier Part Number 1: 2123141; Resistance: 1.3k Ohms
footprint 0402
pins: 1, 2

## R-1.5K,%1,0805
designator R?, comment 1.5k
RES SMD 1.5K OHM 1% 1/8W 0805; Manufacturer: Yageo; Manufacturer Part Number: RC0805FR-071K5L; Power (Watts): 0.125W, 1/8W; Temperature Coefficient: ±100ppm/°C; Supplier 1: Digi-Key; RoHS: RoHS Compliant; Category: Resistors; Stock 1: 815764; Pricing 1: 1=0.1, 10=0.021, 25=0.0152, 100=0.0084, 250=0.00644, 500=0.00514, 1000=0.00379, 2500=0.00329 (USD); Packaging: Digi-Reel®; Tolerance: ±1%; Composition: Thick Film; Features: Moisture Resistant; Operating Temperature: -55°C ~ 155°C; Package / Case: 0805 (2012 Metric); Supplier Device Package: 0805; Size / Dimension: 0.079" L x 0.049" W (2.00mm x 1.25mm); Height: 0.024" (0.60mm); Number of Terminations: 2; ComponentLink1URL: http://www.yageo.com/documents/recent/PYu-RC_Group_51_RoHS_L_04.pdf; ComponentLink1Description: http://www.yageo.com/documents/recent/PYu-RC_Group_51_RoHS_L_04.pdf; Supplier Part Number 1: 311-1.50KCRDKR-ND; Supplier 2: Digi-Key; Stock 2: 28544; Pricing 2: 1=0.1, 10=0.054, 25=0.0392, 50=0.03, 100=0.0221, 250=0.01684, 500=0.01346, 1000=0.00991, 2500=0.0086 (USD); Part Status: Active; Failure Rate: -; ComponentLink2URL: http://www.vishay.com/docs/20035/dcrcwe3.pdf; ComponentLink2Description: http://www.vishay.com/docs/20035/dcrcwe3.pdf; Resistance (Ohms): 1.5k
footprint R0805
pins: 1, 2

## R-1.62M,0805
designator R?  Resistance (Ohms): 1.62M
RES 1.62M OHM 1/8W 1% 0805 SMD; Manufacturer: Yageo; Manufacturer Part Number: RC0805FR-071M62L; Power (Watts): 0.125W, 1/8W; Temperature Coefficient: ±100ppm/°C; Supplier 1: Digi-Key; RoHS: RoHS Compliant; Category: Resistors; Stock 1: 15000; Pricing 1: 5000=0.00289, 10000=0.00251, 25000=0.0022, 50000=0.00202, 125000=0.00198 (USD); Packaging: Tape & Reel (TR); Tolerance: ±1%; Composition: Thick Film; Features: Moisture Resistant; Package / Case: 0805 (2012 Metric); Supplier Device Package: 0805; Size / Dimension: 0.079" L x 0.049" W (2.00mm x 1.25mm); Height: 0.024" (0.60mm); Number of Terminations: 2; ComponentLink1URL: http://media.digikey.com/pdf/Data%20Sheets/Yageo%20PDFs/RC0805%20Pb%20Free.pdf; ComponentLink1Description: http://media.digikey.com/pdf/Data%20Sheets/Yageo%20PDFs/RC0805%20Pb%20Free.pdf; Supplier Part Number 1: 311-1.62MCRTR-ND
footprint R0805
pins: 1, 2

## R-1K,0805
designator R?  Resistance (Ohms): 1k
BOURNS - CR0805-FX-1001ELF - RESISTOR, 1K, 0.125W, 1%; Manufacturer: Bourns Inc.; Power (Watts): 0.125W, 1/8W; Temperature Coefficient: ±100ppm/°C; Supplier 1: Digi-Key; Manufacturer Part Number: CR0805-FX-1001ELF; RoHS: RoHS Compliant; Category: Resistors; Stock 1: 68774; Pricing 1: 1=0.1, 10=0.069, 25=0.05, 50=0.038, 100=0.028, 250=0.0214, 500=0.0171, 1000=0.01259, 2500=0.01093 (USD); Packaging: Cut Tape (CT); Tolerance: ±1%; Composition: Thick Film; Features: Moisture Resistant; Operating Temperature: -55°C ~ 155°C; Package / Case: 0805 (2012 Metric); Supplier Device Package: 0805; Size / Dimension: 0.079" L x 0.049" W (2.00mm x 1.25mm); Height: 0.024" (0.60mm); Number of Terminations: 2; ComponentLink1URL: http://www.bourns.com/docs/Product-Datasheets/CHPREZTR.pdf; ComponentLink1Description: http://www.bourns.com/docs/Product-Datasheets/CHPREZTR.pdf; Supplier Part Number 1: CR0805-FX-1001ELFCT-ND
footprint R0805
pins: 1, 2

## R-1M,0805
designator R?  Resistance (Ohms): 1M
RES SMD 1M OHM 1% 1/8W 0805; Manufacturer: Panasonic Electronic Components; Manufacturer Part Number: ERJ-6ENF1004V; Power (Watts): 0.125W, 1/8W; Temperature Coefficient: ±100ppm/°C; Supplier 1: Digi-Key; RoHS: RoHS Compliant; Category: Resistors; Stock 1: 889495; Pricing 1: 1=0.1, 50=0.022, 100=0.0162, 250=0.01236, 500=0.0099, 1000=0.00729 (USD); Packaging: Digi-Reel®; Tolerance: ±1%; Composition: Thick Film; Features: Automotive AEC-Q200; Operating Temperature: -55°C ~ 155°C; Package / Case: 0805 (2012 Metric); Supplier Device Package: 0805; Size / Dimension: 0.079" L x 0.049" W (2.00mm x 1.25mm); Height: 0.028" (0.70mm); Number of Terminations: 2; ComponentLink1URL: http://industrial.panasonic.com/www-cgi/jvcr13pz.cgi?E+PZ+3+AOA0002+ERJ6ENF1004V+7+WW; ComponentLink1Description: http://industrial.panasonic.com/www-cgi/jvcr13pz.cgi?E+PZ+3+AOA0002+ERJ6ENF1004V+7+WW; Supplier Part Number 1: P1.00MCDKR-ND
footprint R0805
pins: 1, 2

## R-1R,0805
designator R?, comment 1 Ohms
BOURNS - CR0805-J/-1R0ELF - RESISTOR THICK FILM, 1 OHM, 5%, 0805; Manufacturer: Bourns Inc.; Power (Watts): 0.125W, 1/8W; Supplier 1: Digi-Key; Manufacturer Part Number: CR0805-J/-1R0ELF; RoHS: RoHS Compliant; Category: Resistors; Stock 1: 13431; Pricing 1: 1=0.1, 10=0.056, 25=0.0404, 50=0.0308, 100=0.0228, 250=0.01736, 500=0.0139, 1000=0.01023, 2500=0.00888 (USD); Packaging: Cut Tape (CT); Tolerance: ±5%; Composition: Thick Film; Features: Moisture Resistant; Temperature Coefficient: -; Operating Temperature: -55°C ~ 155°C; Package / Case: 0805 (2012 Metric); Supplier Device Package: 0805; Size / Dimension: 0.079" L x 0.049" W (2.00mm x 1.25mm); Height: 0.024" (0.60mm); Number of Terminations: 2; ComponentLink1URL: http://www.bourns.com/docs/Product-Datasheets/CHPREZTR.pdf; ComponentLink1Description: http://www.bourns.com/docs/Product-Datasheets/CHPREZTR.pdf; Supplier Part Number 1: CR0805-J/-1R0ELFCT-ND; Resistance (Ohms): 1 Ohms
footprint R0805
pins: 1, 2

## R-2.2K,0805
designator R?  Resistance: 2.2K Ohms
PANASONIC - ERJP06F2201V - RESISTOR, THICK FILM, 2.2 KOHM, 0.5W, 1%; Product Range: PANASONIC - ERJ Series; Power Rating: 500; Resistor Case Style: 0805 [2012 Metric]; Temperature Coefficient: ± 100; Voltage Rating: 400; SVHC: No SVHC (16-Dec-2013); External Depth: 1.25; External Length / Height: 0.6; External Width: 2; Overload Voltage: 600; Reel Quantity: 5000; Resistor Mounting: SMD; Supplier 1: Farnell; Manufacturer: PANASONIC; Manufacturer Part Number: ERJP06F2201V; RoHS: YES; Stock 1: 750; Pricing 1: 25=0,127, 100=0,105, 500=0,0858, 1000=0,065, 5000=0,0624 (EUR); Resistance Tolerance: ± 1%; Resistor Element Material: Thick Film; Packaging: Cut Tape; MSL: -; No. of Pins: 2; Operating Temperature Max: 155; Operating Temperature Min: -55; Operating Temperature Range: -55°C to +155; Series: ERJP<!--FANDB--><div class="features-and-benefits-container"></div>; ComponentLink1URL: http://www.farnell.com/datasheets/1801181.pdf; ComponentLink1Description: http://www.farnell.com/datasheets/1801181.pdf; ComponentLink2URL: http://www.farnell.com/datasheets/1718548.pdf; ComponentLink2Description: http://www.farnell.com/datasheets/1718548.pdf; ComponentLink3URL: http://www.farnell.com/cad/1697897.zip; ComponentLink3Description: http://www.farnell.com/cad/1697897.zip; Supplier Part Number 1: 1750759
footprint R0805
pins: 1, 2

## R-2K,0603
designator R?, comment 2 kOhms
Thick Film Resistors - SMD 1/10watt 2.0Kohms 1%; Manufacturer: Vishay / Dale; Manufacturer Part Number: CRCW06032K00FKEA; Power Rating: 100 mW; Temperature Coefficient: 100 PPM / K; Voltage Rating: 75 V; Case Height: 0.45 mm; Case Length: 1.55 mm; Case Width: 0.85 mm; Supplier 1: Mouser; RoHS: RoHS Compliant By Exemption; Category: Thick Film Resistors - SMD; Stock 1: 484813; Pricing 1: 1=0.119, 10=0.019, 100=0.015, 1000=0.012, 5000=0.007, 25000=0.006, 50000=0.004 (AUD); Operating Temperature Range: - 55 C to + 155 C; Package / Case: 0603 (1608 metric); Packaging: Reel; Product: Thick Film Resistors SMD; Series: CRCW; Tolerance: 1 %; Brand: Vishay / Dale; Case Code - in: 0603; Case Code - mm: 1608; Product Category: 0603 Thick Film Chip Resistors; Standard Pack Qty: 5000; RoHS - Mouser: E; Minimum Order Quantity: 1; Reeling: True; ComponentLink1URL: http://www.vishay.com/doc?20035; ComponentLink1Description: http://www.vishay.com/doc?20035; Supplier Part Number 1: 71-CRCW0603-2.0K-E3; Resistance: 2 kOhms
footprint 0603 (0603_CC)
pins: 1, 2

## R-3.01K,0603
designator R?  Resistance: 3.01 kOhms  (hidden comment: R-3.01K,0603)
Thick Film Resistors - SMD 1/10watt 3.01Kohms 1%; Manufacturer: Vishay / Dale; Manufacturer Part Number: CRCW06033K01FKEB; Power Rating: 100 mW; Temperature Coefficient: 100 PPM / K; Voltage Rating: 75 V; Case Height: 0.45 mm; Case Length: 1.55 mm; Case Width: 0.85 mm; Supplier 1: Mouser; RoHS: RoHS Compliant By Exemption; Category: Thick Film Resistors - SMD; Stock 1: 23974; Pricing 1: 1=0.119, 10=0.019, 100=0.015, 1000=0.012, 10000=0.007, 30000=0.006, 50000=0.004 (AUD); Operating Temperature Range: - 55 C to + 155 C; Package / Case: 0603 (1608 metric); Packaging: Reel; Product: Thick Film Resistors SMD; Series: CRCW; Tolerance: 1 %; Brand: Vishay / Dale; Case Code - in: 0603; Case Code - mm: 1608; Product Category: 0603 Thick Film Chip Resistors; Standard Pack Qty: 10000; RoHS - Mouser: E; Minimum Order Quantity: 1; Reeling: True; ComponentLink1URL: http://www.vishay.com/doc?20035; ComponentLink1Description: http://www.vishay.com/doc?20035; Supplier Part Number 1: 71-CRCW06033K01FKEB
footprint 0603 (0603_CC)
pins: 1, 2

## R-3.3K,0805
designator R?, comment Resistance (Ohms): 3.3k  (hidden comment: 3.3K OHM 0805)
RES SMD 3.3K OHM 5% 1/8W 0805; Manufacturer: Yageo; Manufacturer Part Number: RC0805JR-073K3L; Power (Watts): 0.125W, 1/8W; Temperature Coefficient: ±100ppm/°C; Supplier 1: Digi-Key; RoHS: RoHS Compliant; Category: Resistors; Stock 1: 439567; Pricing 1: 1=0.1, 10=0.018, 25=0.0128, 100=0.0073, 250=0.00556, 500=0.00444, 1000=0.00326, 2500=0.00283 (USD); Packaging: Digi-Reel®; Tolerance: ±5%; Composition: Thick Film; Features: Moisture Resistant; Operating Temperature: -55°C ~ 155°C; Package / Case: 0805 (2012 Metric); Supplier Device Package: 0805; Size / Dimension: 0.079" L x 0.049" W (2.00mm x 1.25mm); Height: 0.024" (0.60mm); Number of Terminations: 2; ComponentLink1URL: http://www.yageo.com/documents/recent/PYu-RC_Group_51_RoHS_L_04.pdf; ComponentLink1Description: http://www.yageo.com/documents/recent/PYu-RC_Group_51_RoHS_L_04.pdf; Supplier Part Number 1: 311-3.3KARDKR-ND
footprint R0805
pins: 1, 2

## R-3.92K,%1,0805
designator R?, comment Supplier Part Number 1: A119990CT-ND  (hidden comment: RN73C2A3K92BTD)
RES SMD 3.92KOHM 0.1% 1/10W 0805; Manufacturer: TE Connectivity AMP Connectors; Resistance (Ohms): 3.92k; Power (Watts): 0.1W, 1/10W; Temperature Coefficient: ±10ppm/°C; Supplier 1: Digi-Key; Manufacturer Part Number: RN73C2A3K92BTD; RoHS: RoHS Compliant; Category: Resistors; Stock 1: 8776; Pricing 1: 1=0.74, 10=0.621, 25=0.532, 50=0.4788, 100=0.4168, 250=0.37248, 500=0.30152, 1000=0.24388, 2500=0.2359 (USD); Packaging: Cut Tape (CT); Part Status: Active; Tolerance: ±0.1%; Composition: Thin Film; Features: -; Operating Temperature: -55°C ~ 155°C; Package / Case: 0805 (2012 Metric); Supplier Device Package: 0805; Size / Dimension: 0.079" L x 0.049" W (2.00mm x 1.25mm); Height: 0.026" (0.65mm); Number of Terminations: 2; ComponentLink1URL: http://media.digikey.com/pdf/Data%20Sheets/Tyco%20Electonics%20AMP%20PDFs/RN73_Series_2011.pdf; ComponentLink1Description: http://media.digikey.com/pdf/Data%20Sheets/Tyco%20Electonics%20AMP%20PDFs/RN73_Series_2011.pdf
footprint R0805
pins: 1, 2

## R-3K,0805
designator R?, comment Resistance (Ohms): 3k  (hidden comment: CPF-A-0805B3K0E)
RES SMD 3K OHM 0.1% 1/10W 0805; Manufacturer: TE Connectivity AMP Connectors; Power (Watts): 0.1W, 1/10W; Temperature Coefficient: ±25ppm/°C; Supplier 1: Digi-Key; Manufacturer Part Number: CPF-A-0805B3K0E; RoHS: RoHS Compliant; Category: Resistors; Stock 1: 5000; Pricing 1: 5000=0.09556, 10000=0.09161, 25000=0.08981, 50000=0.08895, 125000=0.08802 (USD); Packaging: Tape & Reel (TR); Tolerance: ±0.1%; Composition: Thin Film; Features: Automotive AEC-Q200; Operating Temperature: -55°C ~ 155°C; Package / Case: 0805 (2012 Metric); Supplier Device Package: 0805; Size / Dimension: 0.079" L x 0.049" W (2.00mm x 1.25mm); Height: 0.026" (0.65mm); Number of Terminations: 2; ComponentLink1URL: http://www.te.com/commerce/DocumentDelivery/DDEController?Action=srchrtrv&DocNm=1773200-1&DocType=DS&DocLang=English; ComponentLink1Description: http://www.te.com/commerce/DocumentDelivery/DDEController?Action=srchrtrv&DocNm=1773200-1&DocType=DS&DocLang=English; Supplier Part Number 1: A124098TR-ND
footprint R0805
pins: 1, 2

## R-4.7K 1812
designator R?
4.7K 1812
footprint 1812
pins: 1, 2

## R-4.7K,0805
designator R?, comment 4.7 Ohms
BOURNS - CR0805-FX-4701GLF - RESISTOR, 4.7K, 0.125W, 1%; Product Range: BOURNS - CR Series; Power Rating: 125; Resistor Case Style: 0805 [2012 Metric]; Resistor Element Material: Thick Film; Temperature Coefficient: ± 100; Voltage Rating: 150; SVHC: No SVHC (16-Jun-2014); Resistor Mounting: SMD<!--FANDB--><div class="features-and-benefits-container"></div>; Supplier 1: Farnell; Manufacturer: BOURNS; Manufacturer Part Number: CR0805-FX-4701GLF; RoHS: YES; Stock 1: 20050; Pricing 1: 50=0,0312, 250=0,0247, 1000=0,0234, 5000=0,0156, 10000=0,0143 (EUR); Resistance Tolerance: ± 1%; Packaging: Cut Tape; MSL: MSL 1 - Unlimited; ComponentLink1URL: http://www.farnell.com/datasheets/1845293.pdf; ComponentLink1Description: http://www.farnell.com/datasheets/1845293.pdf; Supplier Part Number 1: 2008383; Resistance: 4.7 Ohms
footprint R0805
pins: 1, 2

## R-5.1K,1206
designator R?, comment Resistance (Ohms): 5.11k  (hidden comment: RES SMD 5.1K)
RES SMD 5.11K OHM 1% 1/2W 1206; Manufacturer: Stackpole Electronics Inc.; Manufacturer Part Number: RNCP1206FTD5K11; Power (Watts): 0.5W, 1/2W; Temperature Coefficient: ±100ppm/°C; Supplier 1: Digi-Key; RoHS: RoHS Compliant; Category: Resistors; Stock 1: 52805; Pricing 1: 1=0.1, 10=0.049, 50=0.0272, 100=0.0201, 250=0.01536, 500=0.01228, 1000=0.00904, 2500=0.00784 (USD); Packaging: Cut Tape (CT); Part Status: Active; Tolerance: ±1%; Composition: Thin Film; Features: Anti-Sulfur, Moisture Resistant; Operating Temperature: -55°C ~ 155°C; Package / Case: 1206 (3216 Metric); Supplier Device Package: 1206; Size / Dimension: 0.122" L x 0.059" W (3.10mm x 1.50mm); Height: 0.024" (0.60mm); Number of Terminations: 2; Failure Rate: -; ComponentLink1URL: http://www.seielect.com/catalog/SEI-RNCP.pdf; ComponentLink1Description: http://www.seielect.com/catalog/SEI-RNCP.pdf; Supplier Part Number 1: RNCP1206FTD5K11CT-ND
footprint R1206
pins: 1, 2

## R-5.62K,%0.1
designator R?, comment 5.62K
Res Thin Film 0603 5.62K Ohm 0.1% 0.063W(1/16W) ±25ppm/C SMD T/R; Manufacturer: KOA Speer Electronics; Manufacturer Part Number: RN731JTTD5621B25; ID: 1743061; Supplier 1: Arrow; RoHS: : Compliant / : Compliant; Stock 1: 10224; Pricing 1: 1=0.2686, 10=0.2652, 25=0.2375, 100=0.2054, 250=0.2031, 500=0.1831, 1000=0.1811, 3000=0.0973, 25000000=0.0927 (USD); Package Quantity: 1; ComponentLink1URL: https://www.arrow.com/en/products/rn731jttd5621b25/koa-speer-electronics/; ComponentLink1Description: https://www.arrow.com/en/products/rn731jttd5621b25/koa-speer-electronics/; Supplier Part Number 1: NxP1CObBccoq3uPZYhWt6YBPhxyGwHDy8qo-WMgKnS8
footprint 0805
pins: 1, 2

## R-9.1K,0805
designator R?, comment 9.1k
RES 9.1K OHM 1/8W 1% 0805 SMD; Manufacturer: Panasonic Electronic Components; Manufacturer Part Number: ERJ-6ENF9101V; Power (Watts): 0.125W, 1/8W; Temperature Coefficient: ±100ppm/°C; Supplier 1: Digi-Key; RoHS: RoHS Compliant; Category: Resistors; Stock 1: 35000; Pricing 1: 5000=0.00475, 10000=0.00413, 25000=0.00363, 50000=0.00333, 125000=0.00326 (USD); Packaging: Tape & Reel (TR); Tolerance: ±1%; Composition: Thick Film; Features: Automotive AEC-Q200 Qualified; Package / Case: 0805 (2012 Metric); Supplier Device Package: 0805; Size / Dimension: 0.079" L x 0.049" W (2.00mm x 1.25mm); Height: 0.028" (0.70mm); Number of Terminations: 2; ComponentLink1URL: http://industrial.panasonic.com/www-cgi/jvcr13pz.cgi?E+PZ+3+AOA0002+ERJ6ENF9101V+7+WW; ComponentLink1Description: http://industrial.panasonic.com/www-cgi/jvcr13pz.cgi?E+PZ+3+AOA0002+ERJ6ENF9101V+7+WW; Supplier Part Number 1: P9.10KCTR-ND; Resistance (Ohms): 9.1k
footprint R0805
pins: 1, 2

## R-10K,%1,0805
designator R?  Resistance (Ohms): 10k
RES SMD 10K OHM 1% 1/8W 0805; Manufacturer: Yageo; Manufacturer Part Number: RC0805FR-0710KL; Power (Watts): 0.125W, 1/8W; Temperature Coefficient: ±100ppm/°C; Supplier 1: Digi-Key; RoHS: RoHS Compliant; Category: Resistors; Stock 1: 4020575; Pricing 1: 1=0.1, 10=0.021, 25=0.0152, 100=0.0084, 250=0.00644, 500=0.00514, 1000=0.00379, 2500=0.00329 (USD); Packaging: Cut Tape (CT); Tolerance: ±1%; Composition: Thick Film; Features: Moisture Resistant; Operating Temperature: -55°C ~ 155°C; Package / Case: 0805 (2012 Metric); Supplier Device Package: 0805; Size / Dimension: 0.079" L x 0.049" W (2.00mm x 1.25mm); Height: 0.024" (0.60mm); Number of Terminations: 2; ComponentLink1URL: http://www.yageo.com/documents/recent/PYu-RC_Group_51_RoHS_L_04.pdf; ComponentLink1Description: http://www.yageo.com/documents/recent/PYu-RC_Group_51_RoHS_L_04.pdf; Supplier Part Number 1: 311-10.0KCRCT-ND
footprint R0805
pins: 1, 2

## R-10R,0805
designator R?, comment Resistance (Ohms): 10  (hidden comment: 10 OHM)
RES SMD 10 OHM 1% 1/8W 0805; Manufacturer: Yageo; Manufacturer Part Number: RC0805FR-0710RL; Power (Watts): 0.125W, 1/8W; Temperature Coefficient: ±200ppm/°C; Supplier 1: Digi-Key; RoHS: RoHS Compliant; Category: Resistors; Stock 1: 702652; Pricing 1: 1=0.1, 10=0.021, 25=0.0152, 100=0.0084, 250=0.00644, 500=0.00514, 1000=0.00379, 2500=0.00329 (USD); Packaging: Digi-Reel®; Tolerance: ±1%; Composition: Thick Film; Features: Moisture Resistant; Operating Temperature: -55°C ~ 155°C; Package / Case: 0805 (2012 Metric); Supplier Device Package: 0805; Size / Dimension: 0.079" L x 0.049" W (2.00mm x 1.25mm); Height: 0.024" (0.60mm); Number of Terminations: 2; ComponentLink1URL: http://www.yageo.com/documents/recent/PYu-RC_Group_51_RoHS_L_04.pdf; ComponentLink1Description: http://www.yageo.com/documents/recent/PYu-RC_Group_51_RoHS_L_04.pdf; Supplier Part Number 1: 311-10.0CRDKR-ND
footprint R0805
pins: 1, 2

## R-15k,0805
designator R?, comment Resistance (Ohms): 15k  (hidden comment: 15K OHM)
RES SMD 15K OHM 5% 1/8W 0805; Manufacturer: Yageo; Manufacturer Part Number: RC0805JR-0715KL; Power (Watts): 0.125W, 1/8W; Temperature Coefficient: ±100ppm/°C; Supplier 1: Digi-Key; RoHS: RoHS Compliant; Category: Resistors; Stock 1: 97321; Pricing 1: 1=0.1, 10=0.018, 25=0.0128, 100=0.0073, 250=0.00556, 500=0.00444, 1000=0.00326, 2500=0.00283 (USD); Packaging: Cut Tape (CT); Tolerance: ±5%; Composition: Thick Film; Features: Moisture Resistant; Operating Temperature: -55°C ~ 155°C; Package / Case: 0805 (2012 Metric); Supplier Device Package: 0805; Size / Dimension: 0.079" L x 0.049" W (2.00mm x 1.25mm); Height: 0.024" (0.60mm); Number of Terminations: 2; ComponentLink1URL: http://www.yageo.com/documents/recent/PYu-RC_Group_51_RoHS_L_04.pdf; ComponentLink1Description: http://www.yageo.com/documents/recent/PYu-RC_Group_51_RoHS_L_04.pdf; Supplier Part Number 1: 311-15KARCT-ND
footprint R0805
pins: 1, 2

## R-18.2K,0603
designator R?  Resistance: 18.2 kOhms  (hidden comment: R-18.2K,0603)
Thick Film Resistors - SMD 1/10watt 18.2Kohms 1%; Manufacturer: Vishay / Dale; Manufacturer Part Number: CRCW060318K2FKEA; Power Rating: 100 mW; Temperature Coefficient: 100 PPM / K; Voltage Rating: 75 V; Case Height: 0.45 mm; Case Length: 1.55 mm; Case Width: 0.85 mm; Supplier 1: Mouser; RoHS: RoHS Compliant By Exemption; Category: Thick Film Resistors - SMD; Stock 1: 22473; Pricing 1: 1=0.119, 10=0.019, 100=0.015, 1000=0.012, 5000=0.007, 25000=0.006, 50000=0.004 (AUD); Operating Temperature Range: - 55 C to + 155 C; Package / Case: 0603 (1608 metric); Packaging: Reel; Product: Thick Film Resistors SMD; Series: CRCW; Tolerance: 1 %; Brand: Vishay / Dale; Case Code - in: 0603; Case Code - mm: 1608; Product Category: 0603 Thick Film Chip Resistors; Standard Pack Qty: 5000; RoHS - Mouser: E; Minimum Order Quantity: 1; Reeling: True; ComponentLink1URL: http://www.vishay.com/doc?20035; ComponentLink1Description: http://www.vishay.com/doc?20035; Supplier Part Number 1: 71-CRCW0603-18.2K-E3
footprint 0603 (0603_CC)
pins: 1, 2